# EAGLE library part ISO7640FMDWR (library IC)
DGTL ISO 4.243KV GEN PURP 16SOIC Manufacturer's datasheet <http://www.ti.com/lit/ds/symlink/iso7641fm.pdf>
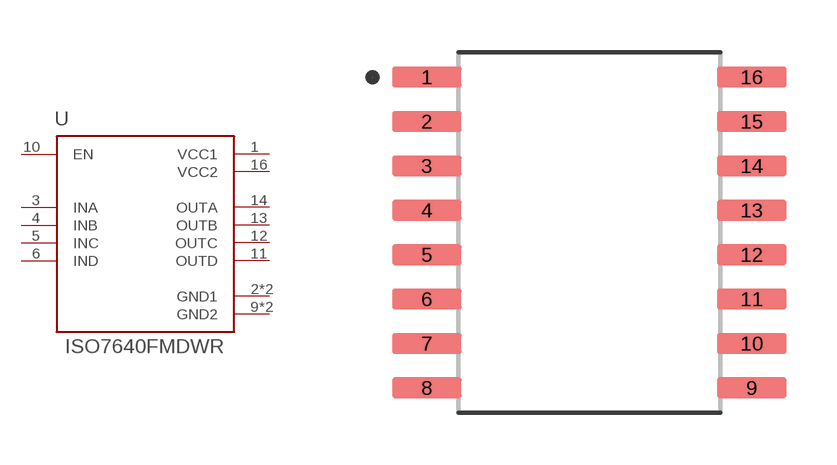
[diagram p5: symbol with the pads of 16-SOIC; footprint 16-SOIC]

Designator prefix U

## ISO7640FMDWR (CREATED_BY: PCBLayout.com; DIGIKEY_PN: 296-41280-6-ND; MANUFACTURER: Texas Instruments; MPN: ISO7640FMDWR; PACKAGE: 16-SOIC)  [16-SOIC]
1  VCC1  pwr
2  GND1  pwr
3  INA  in
4  INB  in
5  INC  in
6  IND  in
8  GND1  pwr
9  GND2  pwr
10  EN  in
11  OUTD  out
12  OUTC  out
13  OUTB  out
14  OUTA  out
15  GND2  pwr
16  VCC2  pwr

## Footprint 16-SOIC (pad centres in mm)
smd 2 x 0.6: 1 -4.65,4.445; 2 -4.65,3.175; 3 -4.65,1.905; 4 -4.65,0.635; 5 -4.65,-0.635; 6 -4.65,-1.905; 7 -4.65,-3.175; 8 -4.65,-4.445; 9 4.65,-4.445; 10 4.65,-3.175; 11 4.65,-1.905; 12 4.65,-0.635; 13 4.65,0.635; 14 4.65,1.905; 15 4.65,3.175; 16 4.65,4.445